# EAGLE library part S15PIN (library jst_eh)
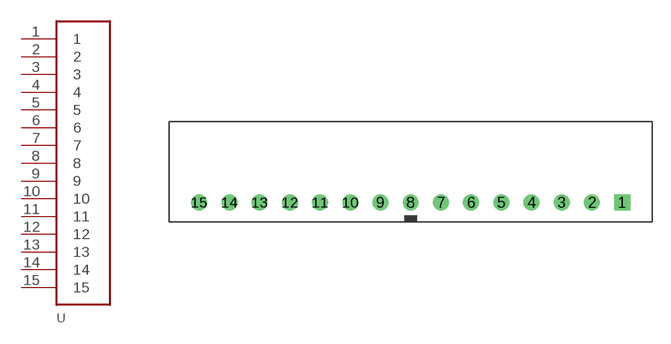
[diagram p19: symbol with the pads of S15B-EH; footprint S15B-EH]

Designator prefix -

## S15PIN  [S15B-EH]
1  1
2  2
3  3
4  4
5  5
6  6
7  7
8  8
9  9
10  10
11  11
12  12
13  13
14  14
15  15

## Footprint S15B-EH (pad centres in mm)
drill 0.813 square: 1 17.5,0
drill 0.813: 2 15,0; 3 12.5,0; 4 10,0; 5 7.5,0; 6 5,0; 7 2.5,0; 8 0,0; 9 -2.5,0; 10 -5,0; 11 -7.5,0; 12 -10,0; 13 -12.5,0; 14 -15,0; 15 -17.5,0